# Altium footprint library RESC.PcbLib: 5 footprints
Each footprint in its own frame and in the unit in brackets; x right, y up, seen from the top. Pads: shape width x height; smd on the part's side, far side on the other; paste and mask are expansions set on the pad; w line width, h text height; cw(c..) or ccw(c..) is an arc to the next point about the centre after c.
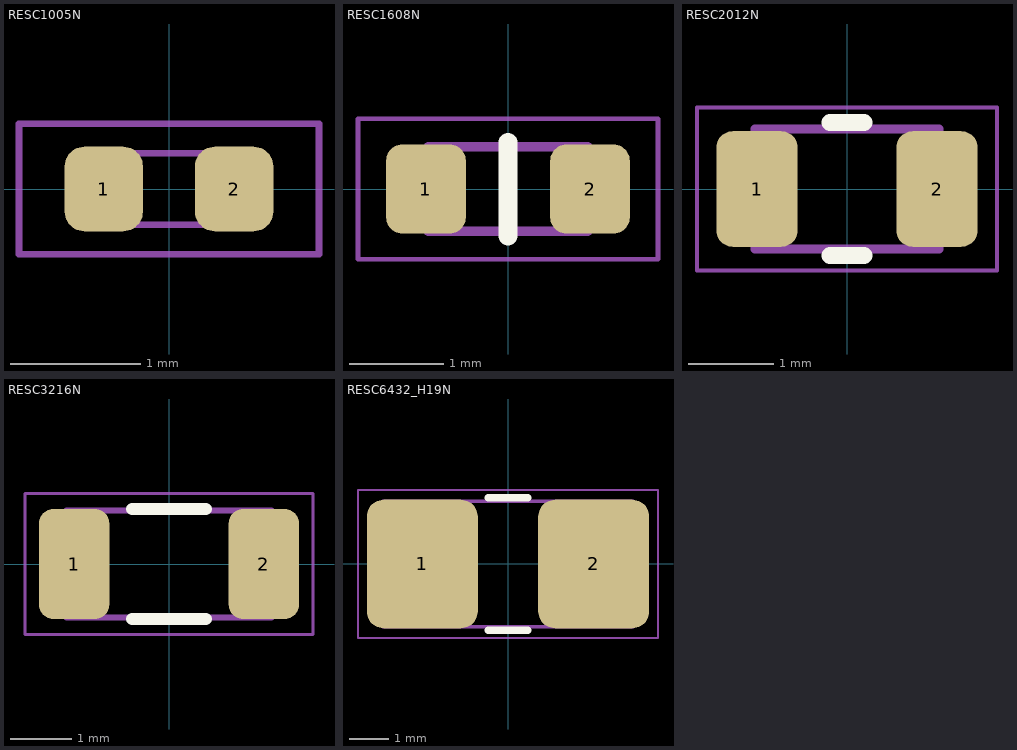
[diagram p0: the footprints below, top view; thin cyan lines are the x and y axes]

## RESC1005N [mm] "Chip Resistor, 2-Leads, Body 1.00x0.50mm, IPC Medium Density"
height 0.6
pads (2):
  rrect50% 0.6x0.65 smd: 1(-0.5,0) 2(0.5,0)
Assembly:
  lines w0.05: -0.525,-0.275 -0.525,0.275 0.525,0.275 0.525,-0.275 -0.525,-0.275
Courtyard:
  lines w0.05: -1.15,-0.5 1.15,-0.5 1.15,0.5 -1.15,0.5 -1.15,-0.5
3D body: height 0.4, standoff 0, extent -0.525,-0.275 0.525,0.275

## RESC1608N [mm] "Chip Resistor, 2-Leads, Body 1.60x0.80mm, IPC Medium Density"
height 0.55
pads (2):
  rrect40% 0.85x0.95 smd: 1(-0.875,0) 2(0.875,0)
Top Overlay:
  lines w0.2: 0,-0.5 0,0.5
Assembly:
  lines w0.1: -0.85,-0.45 -0.85,0.45 0.85,0.45 0.85,-0.45 -0.85,-0.45
Courtyard:
  lines w0.05: -1.6,-0.75 -1.6,0.75 1.6,0.75 1.6,-0.75 -1.6,-0.75
3D body: height 0.55, standoff 0, extent -0.85,-0.45 0.85,0.45

## RESC2012N [mm] "Chip Resistor, 2-Leads, Body 2.00x1.25mm, IPC Medium Density"
height 0.6
pads (2):
  rrect40% 0.95x1.35 smd: 1(-1.05,0) 2(1.05,0)
Top Overlay:
  lines w0.2: -0.2,-0.775 0.2,-0.775 ; -0.2,0.775 0.2,0.775
Assembly:
  lines w0.1: -1.075,-0.7 1.075,-0.7 1.075,0.7 -1.075,0.7 -1.075,-0.7
Courtyard:
  lines w0.05: -1.75,-0.95 1.75,-0.95 1.75,0.95 -1.75,0.95 -1.75,-0.95
3D body: height 0.6, standoff 0, extent -1.075,-0.7 1.075,0.7

## RESC3216N [mm] "Chip Resistor, 2-Leads, Body 3.20x1.60mm, IPC Medium Density"
height 0.65
pads (2):
  rrect40% 1.15x1.8 smd: 1(-1.55,0) 2(1.55,0)
Top Overlay:
  lines w0.2: -0.6,-0.9 0.6,-0.9 ; -0.6,0.9 0.6,0.9
Assembly:
  lines w0.1: -1.675,-0.875 -1.675,0.875 1.675,0.875 1.675,-0.875 -1.675,-0.875
Courtyard:
  lines w0.05: -2.35,-1.15 -2.35,1.15 2.35,1.15 2.35,-1.15 -2.35,-1.15
3D body: height 0.65, standoff 0, extent -1.675,-0.875 1.675,0.875

## RESC6432_H19N [mm] "Chip Resistor, 2-Leads, Body 6.40x3.20mm, IPC Medium Density (1.9mm band)"
height 0.62
pads (2):
  rrect30% 2.85x3.3 smd: 1(-2.2,0) 2(2.2,0)
Top Overlay:
  lines w0.2: -0.5,-1.7 0.5,-1.7 ; -0.5,1.7 0.5,1.7
Assembly:
  lines w0.1: -3.21,-1.61 3.21,-1.61 3.21,1.61 -3.21,1.61 -3.21,-1.61
Courtyard:
  lines w0.05: -3.85,-1.9 3.85,-1.9 3.85,1.9 -3.85,1.9 -3.85,-1.9
3D body: height 0.62, standoff 0, extent 1.31,-1.61 3.21,1.61
3D body: height 0.62, standoff 0, extent -3.21,-1.61 -1.31,1.61
3D body: height 0.62, standoff 0, extent -1.31,-1.61 1.31,1.61